# Altium integrated library Infineon_Power_MOSFET.IntLib: 1448 symbols (part 34 of 47)
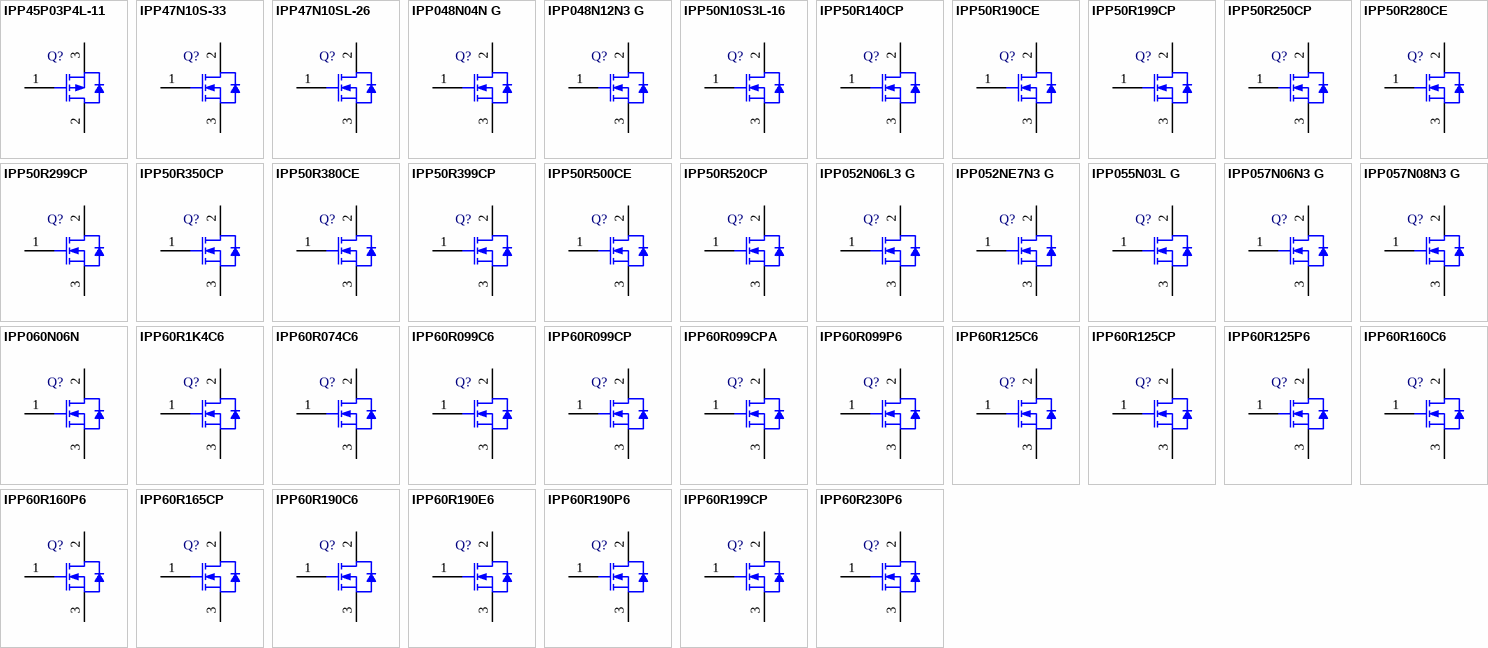
[diagram p70: symbols IPP45P03P4L-11 to IPP60R230P6]

## IPP60R074C6
designator Q?
N-Channel CoolMOS C6 Power-Transistor, 600 V VDS, 57.7 A ID, -55 to 150 degC, PG-TO220-3-1, Tube, Green; Manufacturer: Infineon; PartNumber: IPP60R074C6; Green: TRUE; ID (max): 57.7 A; IDpuls (max): 151 A; Polarity: N; Ptot (max): 480.8 W; QG: 138 nC; RDS (on) (max): 74 mOhm; Rth: 0.26 K/W; RthJA (max): 62 K/W; VDS (max): 600 V; VGS(th) (max): 3.5 V; VGS(th) (min): 2.5 V; DatasheetVersion: Rev. 2.0; PackageVersion: Jul-12; PackageReference: PG-TO220-3-1; PackageDescription: 3-Pin Plastic (Green) Transistor Single Outline Package, 10 x 9.25 mm Body, 2.54 mm Pitch; Halogen-free: TRUE; Packing: Tube; RthJC (max): 0.26 K/W; Technology: CoolMOS C6; Mounting Technology: Through Hole; ComponentLink1Description: Manufacturer URL; ComponentLink1URL: http://www.infineon.com/; ComponentLink2Description: Datasheet; ComponentLink2URL: http://www.infineon.com/dgdl/IPP60R074C6_2_0.pdf?folderId=db3a3043163797a6011637d4bae7003b&fileId=db3a3043337a914d013383d5586560e9; ComponentLink3Description: Package Specification; ComponentLink3URL: http://www.infineon.com/dgdl/BTS117_DS_14.pdf?folderId=db3a30431400ef68011421b54e2e0564&fileId=db3a30433a747525013abff8302d549c&location=en.Products.Automotive_ICs.Smart_High-_and_Low-Side_Switches.HITFET___TEMPFET__-_Smart_Low-Side_Switches.DATASHEET.BTS117_DS_14.pdf
footprint INF-PG-TO220-3-1 (FM, 3-Leads, Body 10x4.4mm, Pitch 2.54mm)
pins: 1 GATE, 2 DRAIN, 3 SOURCE

## IPP60R099C6
designator Q?
N-Channel CoolMOS C6 Power-Transistor, 600 V VDS, 38 A ID, -55 to 150 degC, PG-TO220-3-1, Tube, Green; Manufacturer: Infineon; PartNumber: IPP60R099C6; Green: TRUE; ID (max): 38 A; IDpuls (max): 112 A; Polarity: N; Ptot (max): 278 W; QG: 119 nC; RDS (on) (max): 99 mOhm; Rth: 0.45 K/W; RthJA (max): 62 K/W; VDS (max): 600 V; VGS(th) (max): 3.5 V; VGS(th) (min): 2.5 V; DatasheetVersion: Rev. 2.1; PackageVersion: Jul-12; PackageReference: PG-TO220-3-1; PackageDescription: 3-Pin Plastic (Green) Transistor Single Outline Package, 10 x 9.25 mm Body, 2.54 mm Pitch; Supplier 1: Mouser; Supplier Part Number 1: 726-IPP60R099C6; Supplier 2: Newark; Supplier Part Number 2: 47W3482; Supplier 3: Farnell; Supplier Part Number 3: 2212839; Supplier 4: Digi-Key; Supplier Part Number 4: IPP60R099C6-ND; Halogen-free: TRUE; Packing: Tube; RthJC (max): 0.45 K/W; Technology: CoolMOS C6; Mounting Technology: Through Hole; ComponentLink1Description: Manufacturer URL; ComponentLink1URL: http://www.infineon.com/; ComponentLink2Description: Datasheet; ComponentLink2URL: http://www.infineon.com/dgdl/IPP60R099C6_2_1.pdf?folderId=db3a3043163797a6011638933eda014b&fileId=db3a30432313ff5e012394c84a4c068e; ComponentLink3Description: Package Specification; ComponentLink3URL: http://www.infineon.com/dgdl/BTS117_DS_14.pdf?folderId=db3a30431400ef68011421b54e2e0564&fileId=db3a30433a747525013abff8302d549c&location=en.Products.Automotive_ICs.Smart_High-_and_Low-Side_Switches.HITFET___TEMPFET__-_Smart_Low-Side_Switches.DATASHEET.BTS117_DS_14.pdf
footprint INF-PG-TO220-3-1 (FM, 3-Leads, Body 10x4.4mm, Pitch 2.54mm)
pins: 1 GATE, 2 DRAIN, 3 SOURCE

## IPP60R099CP
designator Q?
N-Channel CoolMOS Power-Transistor, 600 V VDS, 31 A ID, -55 to 150 degC, PG-TO220-3-1, Tube, Green; Manufacturer: Infineon; PartNumber: IPP60R099CP; Green: TRUE; ID (max): 31 A; IDpuls (max): 93 A; Polarity: N; Ptot (max): 255 W; QG: 60 nC; RDS (on) (max): 99 mOhm; Rth: 0.5 K/W; RthJA (max): 62 K/W; VDS (max): 600 V; VGS(th) (max): 3.5 V; VGS(th) (min): 2.5 V; DatasheetVersion: Rev. 2.2; PackageVersion: Jul-12; PackageReference: PG-TO220-3-1; PackageDescription: 3-Pin Plastic (Green) Transistor Single Outline Package, 10 x 9.25 mm Body, 2.54 mm Pitch; Supplier 1: Mouser; Supplier Part Number 1: 726-IPP60R099CP; Supplier 2: Newark; Supplier Part Number 2: 33P7172; Supplier 3: Farnell; Supplier Part Number 3: 1664059; Supplier 4: Digi-Key; Supplier Part Number 4: IPP60R099CPIN-ND; Halogen-free: TRUE; Packing: Tube; RthJC (max): 0.5 K/W; Technology: CoolMOS CP; Mounting Technology: Through Hole; ComponentLink1Description: Manufacturer URL; ComponentLink1URL: http://www.infineon.com/; ComponentLink2Description: Datasheet; ComponentLink2URL: http://www.infineon.com/dgdl/IPP60R099CP_rev2.2.pdf?folderId=db3a304412b407950112b408e8c90004&fileId=db3a304412b407950112b42e3e6b4987; ComponentLink3Description: Package Specification; ComponentLink3URL: http://www.infineon.com/dgdl/BTS117_DS_14.pdf?folderId=db3a30431400ef68011421b54e2e0564&fileId=db3a30433a747525013abff8302d549c&location=en.Products.Automotive_ICs.Smart_High-_and_Low-Side_Switches.HITFET___TEMPFET__-_Smart_Low-Side_Switches.DATASHEET.BTS117_DS_14.pdf
footprint INF-PG-TO220-3-1 (FM, 3-Leads, Body 10x4.4mm, Pitch 2.54mm)
pins: 1 GATE, 2 DRAIN, 3 SOURCE

## IPP60R099CPA
designator Q?
CoolMOS Power Transistor, 600 V VDS, 31 A ID, PG-TO220-3-1, Tube, Green; Manufacturer: Infineon; PartNumber: IPP60R099CPA; Green: TRUE; ID (max): 31 A; IDpuls (max): 93 A; Ptot (max): 255 W; QG: 60 nC; RDS (on) (max) (@10V): 105 mOhm; RthJC (max): 0.5 K/W; VDS (max): 600 V; VGS(th) (max): 3.5 V; VGS(th) (min): 2.5 V; DatasheetVersion: Rev. 2.2; PackageVersion: Jul-12; PackageReference: PG-TO220-3-1; PackageDescription: 3-Pin Plastic (Green) Transistor Single Outline Package, 10 x 9.25 mm Body, 2.54 mm Pitch; Supplier 1: Mouser; Supplier Part Number 1: 726-IPP60R099CPA; Supplier 2: Newark; Supplier Part Number 2: 33P7173; Supplier 3: Farnell; Supplier Part Number 3: 1664060; Supplier 4: Digi-Key; Supplier Part Number 4: IPP60R099CPA-ND; Halogen-free: TRUE; Packing: Tube; Technology: CoolMOS; Mounting Technology: Through Hole; ComponentLink1Description: Manufacturer URL; ComponentLink1URL: http://www.infineon.com/; ComponentLink2Description: Datasheet; ComponentLink2URL: http://www.infineon.com/dgdl/100525_IPP60R099CPA_rev2_2_incl_notification.pdf?folderId=db3a30431a5c32f2011a8084a04a6500&fileId=db3a304328c6bd5c0128ee27172b59dc&location=en.Products.Automotive_ICs.Automotive_MOSFETs.Single__N-Channel_600V_MOSFETs.DATASHEET.100525_IPP60R099CPA_rev2_2_incl_notification.pdf; ComponentLink3Description: Package Specification; ComponentLink3URL: http://www.infineon.com/dgdl/BTS117_DS_14.pdf?folderId=db3a30431400ef68011421b54e2e0564&fileId=db3a30433a747525013abff8302d549c&location=en.Products.Automotive_ICs.Smart_High-_and_Low-Side_Switches.HITFET___TEMPFET__-_Smart_Low-Side_Switches.DATASHEET.BTS117_DS_14.pdf
footprint INF-PG-TO220-3-1 (FM, 3-Leads, Body 10x4.4mm, Pitch 2.54mm)
pins: 1 GATE, 2 DRAIN, 3 SOURCE

## IPP60R099P6
designator Q?
N-Channel CoolMOS(TM) P6 Power Transistor, 600 V VDS, -55 to 150 degC, PG-TO220-3, Tube, Green; Manufacturer: Infineon; PartNumber: IPP60R099P6; Green: TRUE; Polarity: FALSE; RDS (on) (max): 99 mOhm; VDS (max): 600 V; DatasheetVersion: Rev. 2.0; PackageVersion: Rev. 05, 08/2007; PackageReference: PG-TO220-3-1_A; PackageDescription: 3-Pin Plastic (Green) Transistor Single Outline Package, 10.03 x 8.98 mm Body, 2.54 mm Pitch; Supplier 1: Mouser; Supplier Part Number 1: N/A; Halogen-free: TRUE; Packing: Tube; Mounting Technology: Through Hole; ComponentLink1Description: Manufacturer URL; ComponentLink1URL: http://www.infineon.com/; ComponentLink2Description: Datasheet; ComponentLink2URL: http://www.infineon.com/dgdl/DS_IPx60R099P6_2_0.pdf?folderId=db3a3043163797a6011637d4bae7003b&fileId=5546d461464245d301468f3f6a206771; ComponentLink3Description: Package Specification; ComponentLink3URL: http://www.infineon.com/dgdl/IKP30N65H5_2_1.pdf?folderId=db3a3043156fd5730115f56849b61941&fileId=5546d461464245d30146a51a2ca36d28
footprint INF-PG-TO220-3-1_A_V (FM, 3-Leads, Body 10.03x8.98mm, Pitch 2.54mm)
pins: 1 GATE, 2 DRAIN, 3 SOURCE

## IPP60R125C6
designator Q?
N-Channel CoolMOS C6 Power-Transistor, 600 V VDS, 30 A ID, -55 to 150 degC, PG-TO220-3-1, Tube, Green; Manufacturer: Infineon; PartNumber: IPP60R125C6; Green: TRUE; ID (max): 30 A; IDpuls (max): 89 A; Polarity: N; Ptot (max): 219 W; QG: 96 nC; RDS (on) (max): 125 mOhm; Rth: 0.57 K/W; RthJA (max): 62 K/W; VDS (max): 600 V; VGS(th) (max): 3.5 V; VGS(th) (min): 2.5 V; DatasheetVersion: Rev. 2.1; PackageVersion: Jul-12; PackageReference: PG-TO220-3-1; PackageDescription: 3-Pin Plastic (Green) Transistor Single Outline Package, 10 x 9.25 mm Body, 2.54 mm Pitch; Supplier 1: Mouser; Supplier Part Number 1: 726-IPP60R125C6; Supplier 2: Digi-Key; Supplier Part Number 2: IPP60R125C6-ND; Halogen-free: TRUE; Packing: Tube; RthJC (max): 0.57 K/W; Technology: CoolMOS C6; Mounting Technology: Through Hole; ComponentLink1Description: Manufacturer URL; ComponentLink1URL: http://www.infineon.com/; ComponentLink2Description: Datasheet; ComponentLink2URL: http://www.infineon.com/dgdl/IPW60R125C6_2_1.pdf?folderId=db3a3043163797a6011637d4bae7003b&fileId=db3a30432313ff5e01235b1ae8fc4910; ComponentLink3Description: Package Specification; ComponentLink3URL: http://www.infineon.com/dgdl/BTS117_DS_14.pdf?folderId=db3a30431400ef68011421b54e2e0564&fileId=db3a30433a747525013abff8302d549c&location=en.Products.Automotive_ICs.Smart_High-_and_Low-Side_Switches.HITFET___TEMPFET__-_Smart_Low-Side_Switches.DATASHEET.BTS117_DS_14.pdf
footprint INF-PG-TO220-3-1 (FM, 3-Leads, Body 10x4.4mm, Pitch 2.54mm)
pins: 1 GATE, 2 DRAIN, 3 SOURCE

## IPP60R125CP
designator Q?
N-Channel CoolMOS Power-Transistor, 600 V VDS, 25 A ID, -55 to 150 degC, PG-TO220-3-1, Tube, Green; Manufacturer: Infineon; PartNumber: IPP60R125CP; Green: TRUE; ID (max): 25 A; IDpuls (max): 82 A; Polarity: N; Ptot (max): 208 W; QG: 53 nC; RDS (on) (max): 125 mOhm; Rth: 0.6 K/W; RthJA (max): 62 K/W; VDS (max): 600 V; VGS(th) (max): 3.5 V; VGS(th) (min): 2.5 V; DatasheetVersion: Rev. 2.2; PackageVersion: Jul-12; PackageReference: PG-TO220-3-1; PackageDescription: 3-Pin Plastic (Green) Transistor Single Outline Package, 10 x 9.25 mm Body, 2.54 mm Pitch; Supplier 1: Mouser; Supplier Part Number 1: 726-IPP60R125CP; Supplier 2: Newark; Supplier Part Number 2: 33P7174; Supplier 3: Farnell; Supplier Part Number 3: 1664061; Supplier 4: Digi-Key; Supplier Part Number 4: IPP60R125CP-ND; Halogen-free: TRUE; Packing: Tube; RthJC (max): 0.6 K/W; Technology: CoolMOS CP; Mounting Technology: Through Hole; ComponentLink1Description: Manufacturer URL; ComponentLink1URL: http://www.infineon.com/; ComponentLink2Description: Datasheet; ComponentLink2URL: http://www.infineon.com/dgdl/IPP60R125CP_rev2.2.pdf?folderId=db3a304412b407950112b408e8c90004&fileId=db3a304412b407950112b42c0e59465d; ComponentLink3Description: Package Specification; ComponentLink3URL: http://www.infineon.com/dgdl/BTS117_DS_14.pdf?folderId=db3a30431400ef68011421b54e2e0564&fileId=db3a30433a747525013abff8302d549c&location=en.Products.Automotive_ICs.Smart_High-_and_Low-Side_Switches.HITFET___TEMPFET__-_Smart_Low-Side_Switches.DATASHEET.BTS117_DS_14.pdf
footprint INF-PG-TO220-3-1 (FM, 3-Leads, Body 10x4.4mm, Pitch 2.54mm)
pins: 1 GATE, 2 DRAIN, 3 SOURCE

## IPP60R125P6
designator Q?
N-Channel CoolMOS(TM) P6 Power Transistor, 600 V VDS, -55 to 150 degC, PG-TO220-3, Reel, Green; Manufacturer: Infineon; PartNumber: IPP60R125P6; Green: TRUE; Polarity: FALSE; RDS (on) (max): 125 mOhm; VDS (max): 600 V; DatasheetVersion: Rev. 2.0; PackageVersion: Rev. 05, 08/2007; PackageReference: PG-TO220-3-1_A; PackageDescription: 3-Pin Plastic (Green) Transistor Single Outline Package, 10.03 x 8.98 mm Body, 2.54 mm Pitch; Supplier 1: Mouser; Supplier Part Number 1: N/A; Halogen-free: TRUE; Packing: Reel; Mounting Technology: Through Hole; ComponentLink1Description: Manufacturer URL; ComponentLink1URL: http://www.infineon.com/; ComponentLink2Description: Datasheet; ComponentLink2URL: http://www.infineon.com/dgdl/DS_IPx60R125P6_2_0.pdf?folderId=db3a3043156fd5730115c736bcc70ff2&fileId=5546d461464245d301468b0fade666af; ComponentLink3Description: Package Specification; ComponentLink3URL: http://www.infineon.com/dgdl/IKP30N65H5_2_1.pdf?folderId=db3a3043156fd5730115f56849b61941&fileId=5546d461464245d30146a51a2ca36d28
footprint INF-PG-TO220-3-1_A_V (FM, 3-Leads, Body 10.03x8.98mm, Pitch 2.54mm)
pins: 1 GATE, 2 DRAIN, 3 SOURCE

## IPP60R160C6
designator Q?
N-Channel CoolMOS C6 Power-Transistor, 600 V VDS, 23.8 A ID, -55 to 150 degC, PG-TO220-3-1, Tube, Green; Manufacturer: Infineon; PartNumber: IPP60R160C6; Green: TRUE; ID (max): 23.8 A; IDpuls (max): 70 A; Polarity: N; Ptot (max): 176 W; QG: 75 nC; RDS (on) (max): 160 mOhm; Rth: 0.71 K/W; RthJA (max): 62 K/W; VDS (max): 600 V; VGS(th) (max): 3.5 V; VGS(th) (min): 2.5 V; DatasheetVersion: Rev. 2.1; PackageVersion: Jul-12; PackageReference: PG-TO220-3-1; PackageDescription: 3-Pin Plastic (Green) Transistor Single Outline Package, 10 x 9.25 mm Body, 2.54 mm Pitch; Supplier 1: Mouser; Supplier Part Number 1: 726-IPP60R160C6; Supplier 2: Newark; Supplier Part Number 2: 30T1843; Supplier 3: Farnell; Supplier Part Number 3: 1860825; Supplier 4: Digi-Key; Supplier Part Number 4: IPP60R160C6-ND; Halogen-free: TRUE; Packing: Tube; RthJC (max): 0.71 K/W; Technology: CoolMOS C6; Mounting Technology: Through Hole; ComponentLink1Description: Manufacturer URL; ComponentLink1URL: http://www.infineon.com/; ComponentLink2Description: Datasheet; ComponentLink2URL: http://www.infineon.com/dgdl/IPP60R160C6_2_1.pdf?folderId=db3a3043163797a6011638933eda014b&fileId=db3a304323b87bc20123f06a60d340d2; ComponentLink3Description: Package Specification; ComponentLink3URL: http://www.infineon.com/dgdl/BTS117_DS_14.pdf?folderId=db3a30431400ef68011421b54e2e0564&fileId=db3a30433a747525013abff8302d549c&location=en.Products.Automotive_ICs.Smart_High-_and_Low-Side_Switches.HITFET___TEMPFET__-_Smart_Low-Side_Switches.DATASHEET.BTS117_DS_14.pdf
footprint INF-PG-TO220-3-1 (FM, 3-Leads, Body 10x4.4mm, Pitch 2.54mm)
pins: 1 GATE, 2 DRAIN, 3 SOURCE

## IPP60R160P6
designator Q?
N-Channel CoolMOS(TM) P6 Power Transistor, 600 V VDS, -55 to 150 degC, PG-TO220-3, Tube, Green; Manufacturer: Infineon; PartNumber: IPP60R160P6; Green: TRUE; Polarity: FALSE; RDS (on) (max): 160 mOhm; VDS (max): 600 V; DatasheetVersion: Rev. 2.1; PackageVersion: Rev. 05, 08/2007; PackageReference: PG-TO220-3-1_A; PackageDescription: 3-Pin Plastic (Green) Transistor Single Outline Package, 10.03 x 8.98 mm Body, 2.54 mm Pitch; Supplier 1: Mouser; Supplier Part Number 1: N/A; Halogen-free: TRUE; Packing: Tube; Mounting Technology: Through Hole; ComponentLink1Description: Manufacturer URL; ComponentLink1URL: http://www.infineon.com/; ComponentLink2Description: Datasheet; ComponentLink2URL: http://www.infineon.com/dgdl/DS_IPx60R160P6_2_1.pdf?folderId=db3a3043156fd5730115c736bcc70ff2&fileId=db3a3043414fd3ef01415efd27711e0b; ComponentLink3Description: Package Specification; ComponentLink3URL: http://www.infineon.com/dgdl/IKP30N65H5_2_1.pdf?folderId=db3a3043156fd5730115f56849b61941&fileId=5546d461464245d30146a51a2ca36d28
footprint INF-PG-TO220-3-1_A_V (FM, 3-Leads, Body 10.03x8.98mm, Pitch 2.54mm)
pins: 1 GATE, 2 DRAIN, 3 SOURCE

## IPP60R165CP
designator Q?
N-Channel CoolMOS Power-Transistor, 600 V VDS, 21 A ID, -55 to 150 degC, PG-TO220-3-1, Tube, Green; Manufacturer: Infineon; PartNumber: IPP60R165CP; Green: TRUE; ID (max): 21 A; IDpuls (max): 61 A; Polarity: N; Ptot (max): 192 W; QG: 39 nC; RDS (on) (max): 165 mOhm; Rth: 0.65 K/W; RthJA (max): 62 K/W; VDS (max): 600 V; VGS(th) (max): 3.5 V; VGS(th) (min): 2.5 V; DatasheetVersion: Rev. 2.2; PackageVersion: Jul-12; PackageReference: PG-TO220-3-1; PackageDescription: 3-Pin Plastic (Green) Transistor Single Outline Package, 10 x 9.25 mm Body, 2.54 mm Pitch; Supplier 1: Mouser; Supplier Part Number 1: 726-IPP60R165CP; Supplier 2: Newark; Supplier Part Number 2: 33P7175; Supplier 3: Digi-Key; Supplier Part Number 3: IPP60R165CP-ND; Halogen-free: TRUE; Packing: Tube; RthJC (max): 0.65 K/W; Technology: CoolMOS CP; Mounting Technology: Through Hole; ComponentLink1Description: Manufacturer URL; ComponentLink1URL: http://www.infineon.com/; ComponentLink2Description: Datasheet; ComponentLink2URL: http://www.infineon.com/dgdl/IPP60R165CP_rev2.2.pdf?folderId=db3a304412b407950112b408e8c90004&fileId=db3a304412b407950112b42c113a4661; ComponentLink3Description: Package Specification; ComponentLink3URL: http://www.infineon.com/dgdl/BTS117_DS_14.pdf?folderId=db3a30431400ef68011421b54e2e0564&fileId=db3a30433a747525013abff8302d549c&location=en.Products.Automotive_ICs.Smart_High-_and_Low-Side_Switches.HITFET___TEMPFET__-_Smart_Low-Side_Switches.DATASHEET.BTS117_DS_14.pdf
footprint INF-PG-TO220-3-1 (FM, 3-Leads, Body 10x4.4mm, Pitch 2.54mm)
pins: 1 GATE, 2 DRAIN, 3 SOURCE

## IPP60R190C6
designator Q?
N-Channel CoolMOS C6 Power-Transistor, 600 V VDS, 20.2 A ID, -55 to 150 degC, PG-TO220-3-1, Tube, Green; Manufacturer: Infineon; PartNumber: IPP60R190C6; Green: TRUE; ID (max): 20.2 A; IDpuls (max): 59 A; Polarity: N; Ptot (max): 151 W; QG: 63 nC; RDS (on) (max): 190 mOhm; Rth: 0.83 K/W; RthJA (max): 62 K/W; VDS (max): 600 V; VGS(th) (max): 3.5 V; VGS(th) (min): 2.5 V; DatasheetVersion: Rev. 2.1; PackageVersion: Jul-12; PackageReference: PG-TO220-3-1; PackageDescription: 3-Pin Plastic (Green) Transistor Single Outline Package, 10 x 9.25 mm Body, 2.54 mm Pitch; Supplier 1: Mouser; Supplier Part Number 1: 726-IPP60R190C6; Supplier 2: Digi-Key; Supplier Part Number 2: IPP60R190C6-ND; Halogen-free: TRUE; Packing: Tube; RthJC (max): 0.83 K/W; Technology: CoolMOS C6; Mounting Technology: Through Hole; ComponentLink1Description: Manufacturer URL; ComponentLink1URL: http://www.infineon.com/; ComponentLink2Description: Datasheet; ComponentLink2URL: http://www.infineon.com/dgdl/IPP60R190C6+2.1.pdf?folderId=db3a30431ff98815012019af55de3f2c&fileId=db3a30432239cccd0122651296f31152; ComponentLink3Description: Package Specification; ComponentLink3URL: http://www.infineon.com/dgdl/BTS117_DS_14.pdf?folderId=db3a30431400ef68011421b54e2e0564&fileId=db3a30433a747525013abff8302d549c&location=en.Products.Automotive_ICs.Smart_High-_and_Low-Side_Switches.HITFET___TEMPFET__-_Smart_Low-Side_Switches.DATASHEET.BTS117_DS_14.pdf
footprint INF-PG-TO220-3-1 (FM, 3-Leads, Body 10x4.4mm, Pitch 2.54mm)
pins: 1 GATE, 2 DRAIN, 3 SOURCE

## IPP60R190E6
designator Q?
N-Channel CoolMOS E6 Power-Transistor, 600 V VDS, 20.2 A ID, -55 to 150 degC, PG-TO220-3-1, Tube, Green; Manufacturer: Infineon; PartNumber: IPP60R190E6; Green: TRUE; ID (max): 20.2 A; IDpuls (max): 59 A; Polarity: N; Ptot (max): 151 W; QG: 63 nC; RDS (on) (max): 190 mOhm; Rth: 0.83 K/W; RthJA (max): 62 K/W; VDS (max): 600 V; VGS(th) (max): 3.5 V; VGS(th) (min): 2.5 V; DatasheetVersion: Rev. 2.0; PackageVersion: Jul-12; PackageReference: PG-TO220-3-1; PackageDescription: 3-Pin Plastic (Green) Transistor Single Outline Package, 10 x 9.25 mm Body, 2.54 mm Pitch; Supplier 1: Mouser; Supplier Part Number 1: 726-IPP60R190E6; Supplier 2: Digi-Key; Supplier Part Number 2: IPP60R190E6-ND; Halogen-free: TRUE; Packing: Tube; RthJC (max): 0.83 K/W; Technology: CoolMOS E6; Mounting Technology: Through Hole; ComponentLink1Description: Manufacturer URL; ComponentLink1URL: http://www.infineon.com/; ComponentLink2Description: Datasheet; ComponentLink2URL: http://www.infineon.com/dgdl/IPP60R190E6_2_0.pdf?folderId=db3a3043163797a6011637d4bae7003b&fileId=db3a3043284aacd801286cb864242943; ComponentLink3Description: Package Specification; ComponentLink3URL: http://www.infineon.com/dgdl/BTS117_DS_14.pdf?folderId=db3a30431400ef68011421b54e2e0564&fileId=db3a30433a747525013abff8302d549c&location=en.Products.Automotive_ICs.Smart_High-_and_Low-Side_Switches.HITFET___TEMPFET__-_Smart_Low-Side_Switches.DATASHEET.BTS117_DS_14.pdf
footprint INF-PG-TO220-3-1 (FM, 3-Leads, Body 10x4.4mm, Pitch 2.54mm)
pins: 1 GATE, 2 DRAIN, 3 SOURCE

## IPP60R190P6
designator Q?
N-Channel CoolMOS(TM) P6 Power Transistor, 600 V VDS, -55 to 150 degC, PG-TO220-3, Tube, Green; Manufacturer: Infineon; PartNumber: IPP60R190P6; Green: TRUE; Polarity: FALSE; RDS (on) (max): 190 mOhm; VDS (max): 600 V; DatasheetVersion: Rev. 2.1; PackageVersion: Rev. 05, 08/2007; PackageReference: PG-TO220-3-1_A; PackageDescription: 3-Pin Plastic (Green) Transistor Single Outline Package, 10.03 x 8.98 mm Body, 2.54 mm Pitch; Supplier 1: Digi-Key; Supplier Part Number 1: IPP60R190P6-ND; Supplier 2: Farnell; Supplier Part Number 2: 2420500; Supplier 3: Newark; Supplier Part Number 3: 54X5228; Halogen-free: TRUE; Packing: Tube; Mounting Technology: Through Hole; ComponentLink1Description: Manufacturer URL; ComponentLink1URL: http://www.infineon.com/; ComponentLink2Description: Datasheet; ComponentLink2URL: http://www.infineon.com/dgdl/DS_IPx60R190P6_2_1.pdf?folderId=db3a3043156fd5730115c736bcc70ff2&fileId=db3a30433f2e70c5013f37c80e24240f; ComponentLink3Description: Package Specification; ComponentLink3URL: http://www.infineon.com/dgdl/IKP30N65H5_2_1.pdf?folderId=db3a3043156fd5730115f56849b61941&fileId=5546d461464245d30146a51a2ca36d28
footprint INF-PG-TO220-3-1_A_V (FM, 3-Leads, Body 10.03x8.98mm, Pitch 2.54mm)
pins: 1 GATE, 2 DRAIN, 3 SOURCE

## IPP60R199CP
designator Q?
N-Channel CoolMOS Power-Transistor, 600 V VDS, 16 A ID, -55 to 150 degC, PG-TO220-3-1, Tube, Green; Manufacturer: Infineon; PartNumber: IPP60R199CP; Green: TRUE; ID (max): 16 A; IDpuls (max): 51 A; Polarity: N; Ptot (max): 139 W; QG: 32 nC; RDS (on) (max): 199 mOhm; Rth: 0.9 K/W; RthJA (max): 62 K/W; VDS (max): 600 V; VGS(th) (max): 3.5 V; VGS(th) (min): 2.5 V; DatasheetVersion: Rev. 2.3; PackageVersion: Jul-12; PackageReference: PG-TO220-3-1; PackageDescription: 3-Pin Plastic (Green) Transistor Single Outline Package, 10 x 9.25 mm Body, 2.54 mm Pitch; Supplier 1: Mouser; Supplier Part Number 1: 726-IPP60R199CP; Supplier 2: Newark; Supplier Part Number 2: 33P7176; Supplier 3: Farnell; Supplier Part Number 3: 1664064; Supplier 4: Digi-Key; Supplier Part Number 4: IPP60R199CPIN-ND; Halogen-free: TRUE; Packing: Tube; RthJC (max): 0.9 K/W; Technology: CoolMOS CP; Mounting Technology: Through Hole; ComponentLink1Description: Manufacturer URL; ComponentLink1URL: http://www.infineon.com/; ComponentLink2Description: Datasheet; ComponentLink2URL: http://www.infineon.com/dgdl/IPP60R199CP_rev2.3.pdf?folderId=db3a304412b407950112b408e8c90004&fileId=db3a304412b407950112b42d8b484897; ComponentLink3Description: Package Specification; ComponentLink3URL: http://www.infineon.com/dgdl/BTS117_DS_14.pdf?folderId=db3a30431400ef68011421b54e2e0564&fileId=db3a30433a747525013abff8302d549c&location=en.Products.Automotive_ICs.Smart_High-_and_Low-Side_Switches.HITFET___TEMPFET__-_Smart_Low-Side_Switches.DATASHEET.BTS117_DS_14.pdf
footprint INF-PG-TO220-3-1 (FM, 3-Leads, Body 10x4.4mm, Pitch 2.54mm)
pins: 1 GATE, 2 DRAIN, 3 SOURCE

## IPP60R230P6
designator Q?
N-Channel CoolMOS(TM) P6 Power Transistor, 600 V VDS, -55 to 150 degC, PG-TO220-3, Tube, Green; Manufacturer: Infineon; PartNumber: IPP60R230P6; Green: TRUE; Polarity: FALSE; RDS (on) (max): 230 mOhm; VDS (max): 600 V; DatasheetVersion: Rev. 2.1; PackageVersion: Rev. 05, 08/2007; PackageReference: PG-TO220-3-1_A; PackageDescription: 3-Pin Plastic (Green) Transistor Single Outline Package, 10.03 x 8.98 mm Body, 2.54 mm Pitch; Supplier 1: Mouser; Supplier Part Number 1: N/A; Halogen-free: TRUE; Packing: Tube; Mounting Technology: Through Hole; ComponentLink1Description: Manufacturer URL; ComponentLink1URL: http://www.infineon.com/; ComponentLink2Description: Datasheet; ComponentLink2URL: http://www.infineon.com/dgdl/DS_IPx60R230P6_2_1.pdf?folderId=db3a3043156fd5730115c736bcc70ff2&fileId=db3a3043414fd3ef01415f8ab7321ec1; ComponentLink3Description: Package Specification; ComponentLink3URL: http://www.infineon.com/dgdl/IKP30N65H5_2_1.pdf?folderId=db3a3043156fd5730115f56849b61941&fileId=5546d461464245d30146a51a2ca36d28
footprint INF-PG-TO220-3-1_A_V (FM, 3-Leads, Body 10.03x8.98mm, Pitch 2.54mm)
pins: 1 GATE, 2 DRAIN, 3 SOURCE

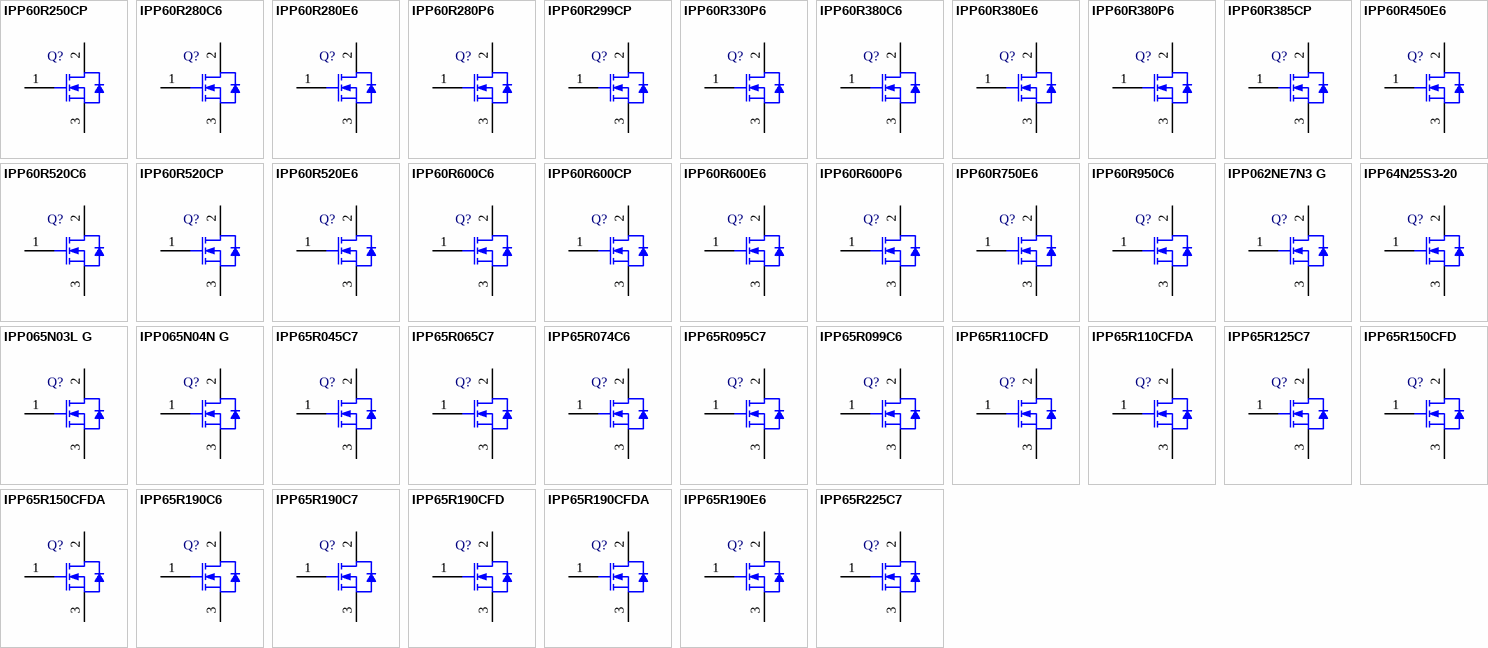
[diagram p27: symbols IPP60R250CP to IPP65R225C7]

## IPP60R250CP
designator Q?
N-Channel CoolMOS Power-Transistor, 600 V VDS, 12 A ID, -55 to 150 degC, PG-TO220-3-1, Tube, Green; Manufacturer: Infineon; PartNumber: IPP60R250CP; Green: TRUE; ID (max): 12 A; IDpuls (max): 40 A; Polarity: N; Ptot (max): 104 W; QG: 26 nC; RDS (on) (max): 250 mOhm; Rth: 1 K/W; RthJA (max): 62 K/W; RthJC (max): 1.2 K/W; VDS (max): 600 V; VGS(th) (max): 3.5 V; VGS(th) (min): 2.5 V; DatasheetVersion: Rev. 2.1; PackageVersion: Jul-12; PackageReference: PG-TO220-3-1; PackageDescription: 3-Pin Plastic (Green) Transistor Single Outline Package, 10 x 9.25 mm Body, 2.54 mm Pitch; Supplier 1: Mouser; Supplier Part Number 1: 726-IPP60R250CP; Supplier 2: Newark; Supplier Part Number 2: 33P7177; Supplier 3: Digi-Key; Supplier Part Number 3: IPP60R250CPIN-ND; Halogen-free: TRUE; Packing: Tube; Technology: CoolMOS CP; Mounting Technology: Through Hole; ComponentLink1Description: Manufacturer URL; ComponentLink1URL: http://www.infineon.com/; ComponentLink2Description: Datasheet; ComponentLink2URL: http://www.infineon.com/dgdl/IPP60R250CP_rev2.1.pdf?folderId=db3a3043163797a6011637d4bae7003b&fileId=db3a304316f66ee8011744d1654a2fa7; ComponentLink3Description: Package Specification; ComponentLink3URL: http://www.infineon.com/dgdl/BTS117_DS_14.pdf?folderId=db3a30431400ef68011421b54e2e0564&fileId=db3a30433a747525013abff8302d549c&location=en.Products.Automotive_ICs.Smart_High-_and_Low-Side_Switches.HITFET___TEMPFET__-_Smart_Low-Side_Switches.DATASHEET.BTS117_DS_14.pdf
footprint INF-PG-TO220-3-1 (FM, 3-Leads, Body 10x4.4mm, Pitch 2.54mm)
pins: 1 GATE, 2 DRAIN, 3 SOURCE

## IPP60R280C6
designator Q?
N-Channel CoolMOS C6 Power-Transistor, 600 V VDS, 13.8 A ID, -55 to 150 degC, PG-TO220-3-1, Tube, Green; Manufacturer: Infineon; PartNumber: IPP60R280C6; Green: TRUE; ID (max): 13.8 A; IDpuls (max): 40 A; Polarity: N; Ptot (max): 104 W; QG: 43 nC; RDS (on) (max): 280 mOhm; Rth: 1.2 K/W; RthJA (max): 62 K/W; VDS (max): 600 V; VGS(th) (max): 3.5 V; VGS(th) (min): 2.5 V; DatasheetVersion: Rev. 2.1; PackageVersion: Jul-12; PackageReference: PG-TO220-3-1; PackageDescription: 3-Pin Plastic (Green) Transistor Single Outline Package, 10 x 9.25 mm Body, 2.54 mm Pitch; Supplier 1: Mouser; Supplier Part Number 1: 726-IPP60R280C6; Supplier 2: Digi-Key; Supplier Part Number 2: IPP60R280C6-ND; Halogen-free: TRUE; Packing: Tube; RthJC (max): 1.2 K/W; Technology: CoolMOS C6; Mounting Technology: Through Hole; ComponentLink1Description: Manufacturer URL; ComponentLink1URL: http://www.infineon.com/; ComponentLink2Description: Datasheet; ComponentLink2URL: http://www.infineon.com/dgdl/IPP60R280C6_2_1.pdf?folderId=db3a3043163797a6011638933eda014b&fileId=db3a30432313ff5e01239de7a64a6f83; ComponentLink3Description: Package Specification; ComponentLink3URL: http://www.infineon.com/dgdl/BTS117_DS_14.pdf?folderId=db3a30431400ef68011421b54e2e0564&fileId=db3a30433a747525013abff8302d549c&location=en.Products.Automotive_ICs.Smart_High-_and_Low-Side_Switches.HITFET___TEMPFET__-_Smart_Low-Side_Switches.DATASHEET.BTS117_DS_14.pdf
footprint INF-PG-TO220-3-1 (FM, 3-Leads, Body 10x4.4mm, Pitch 2.54mm)
pins: 1 GATE, 2 DRAIN, 3 SOURCE

## IPP60R280E6
designator Q?
N-Channel CoolMOS E6 Power-Transistor, 600 V VDS, 13.8 A ID, -55 to 150 degC, PG-TO220-3-1, Tube, Green; Manufacturer: Infineon; PartNumber: IPP60R280E6; Green: TRUE; ID (max): 13.8 A; IDpuls (max): 40 A; Polarity: N; Ptot (max): 104 W; QG: 43 nC; RDS (on) (max): 280 mOhm; Rth: 1.2 K/W; RthJA (max): 62 K/W; VDS (max): 600 V; VGS(th) (max): 3.5 V; VGS(th) (min): 2.5 V; DatasheetVersion: Rev. 2.0; PackageVersion: Jul-12; PackageReference: PG-TO220-3-1; PackageDescription: 3-Pin Plastic (Green) Transistor Single Outline Package, 10 x 9.25 mm Body, 2.54 mm Pitch; Supplier 1: Mouser; Supplier Part Number 1: 726-IPP60R280E6; Supplier 2: Digi-Key; Supplier Part Number 2: IPP60R280E6-ND; Halogen-free: TRUE; Packing: Tube; RthJC (max): 1.2 K/W; Technology: CoolMOS E6; Mounting Technology: Through Hole; ComponentLink1Description: Manufacturer URL; ComponentLink1URL: http://www.infineon.com/; ComponentLink2Description: Datasheet; ComponentLink2URL: http://www.infineon.com/dgdl/IPP60R280E6_2.0.pdf?folderId=db3a3043163797a6011638933eda014b&fileId=db3a304327b8975001281fa6ed7144f7; ComponentLink3Description: Package Specification; ComponentLink3URL: http://www.infineon.com/dgdl/BTS117_DS_14.pdf?folderId=db3a30431400ef68011421b54e2e0564&fileId=db3a30433a747525013abff8302d549c&location=en.Products.Automotive_ICs.Smart_High-_and_Low-Side_Switches.HITFET___TEMPFET__-_Smart_Low-Side_Switches.DATASHEET.BTS117_DS_14.pdf
footprint INF-PG-TO220-3-1 (FM, 3-Leads, Body 10x4.4mm, Pitch 2.54mm)
pins: 1 GATE, 2 DRAIN, 3 SOURCE

## IPP60R280P6
designator Q?
N-Channel CoolMOS(TM) P6 Power Transistor, 600 V VDS, -55 to 150 degC, PG-TO220-3, Tube, Green; Manufacturer: Infineon; PartNumber: IPP60R280P6; Green: TRUE; Polarity: FALSE; RDS (on) (max): 280 mOhm; VDS (max): 600 V; DatasheetVersion: Rev. 2.1; PackageVersion: Rev. 05, 08/2007; PackageReference: PG-TO220-3-1_A; PackageDescription: 3-Pin Plastic (Green) Transistor Single Outline Package, 10.03 x 8.98 mm Body, 2.54 mm Pitch; Supplier 1: Farnell; Supplier Part Number 1: 2420499; Supplier 2: Newark; Supplier Part Number 2: 54X5229; Halogen-free: TRUE; Packing: Tube; Mounting Technology: Through Hole; ComponentLink1Description: Manufacturer URL; ComponentLink1URL: http://www.infineon.com/; ComponentLink2Description: Datasheet; ComponentLink2URL: http://www.infineon.com/dgdl/DS_IPx60R280P6_2_1.pdf?folderId=db3a3043156fd5730115c736bcc70ff2&fileId=db3a3043416e106e01416e269e3e0021; ComponentLink3Description: Package Specification; ComponentLink3URL: http://www.infineon.com/dgdl/IKP30N65H5_2_1.pdf?folderId=db3a3043156fd5730115f56849b61941&fileId=5546d461464245d30146a51a2ca36d28
footprint INF-PG-TO220-3-1_A_V (FM, 3-Leads, Body 10.03x8.98mm, Pitch 2.54mm)
pins: 1 GATE, 2 DRAIN, 3 SOURCE

## IPP60R299CP
designator Q?
N-Channel CoolMOS Power-Transistor, 600 V VDS, 11 A ID, -55 to 150 degC, PG-TO220-3-1, Tube, Green; Manufacturer: Infineon; PartNumber: IPP60R299CP; Green: TRUE; ID (max): 11 A; IDpuls (max): 34 A; Polarity: N; Ptot (max): 96 W; QG: 22 nC; RDS (on) (max): 299 mOhm; Rth: 1.3 K/W; RthJA (max): 62 K/W; VDS (max): 600 V; VGS(th) (max): 3.5 V; VGS(th) (min): 2.5 V; DatasheetVersion: Rev. 2.2; PackageVersion: Jul-12; PackageReference: PG-TO220-3-1; PackageDescription: 3-Pin Plastic (Green) Transistor Single Outline Package, 10 x 9.25 mm Body, 2.54 mm Pitch; Supplier 1: Mouser; Supplier Part Number 1: 726-IPP60R299CP; Supplier 2: Farnell; Supplier Part Number 2: 1664066; Supplier 3: Digi-Key; Supplier Part Number 3: IPP60R299CPIN-ND; Halogen-free: TRUE; Packing: Tube; RthJC (max): 1.3 K/W; Technology: CoolMOS CP; Mounting Technology: Through Hole; ComponentLink1Description: Manufacturer URL; ComponentLink1URL: http://www.infineon.com/; ComponentLink2Description: Datasheet; ComponentLink2URL: http://www.infineon.com/dgdl/IPP60R299CP_rev2.2.pdf?folderId=db3a304412b407950112b408e8c90004&fileId=db3a304412b407950112b42e4194498b; ComponentLink3Description: Package Specification; ComponentLink3URL: http://www.infineon.com/dgdl/BTS117_DS_14.pdf?folderId=db3a30431400ef68011421b54e2e0564&fileId=db3a30433a747525013abff8302d549c&location=en.Products.Automotive_ICs.Smart_High-_and_Low-Side_Switches.HITFET___TEMPFET__-_Smart_Low-Side_Switches.DATASHEET.BTS117_DS_14.pdf
footprint INF-PG-TO220-3-1 (FM, 3-Leads, Body 10x4.4mm, Pitch 2.54mm)
pins: 1 GATE, 2 DRAIN, 3 SOURCE

## IPP60R330P6
designator Q?
N-Channel CoolMOS(TM) P6 Power Transistor, 600 V VDS, -55 to 150 degC, PG-TO220-3, Tube, Green; Manufacturer: Infineon; PartNumber: IPP60R330P6; Green: TRUE; Polarity: FALSE; RDS (on) (max): 330 mOhm; VDS (max): 600 V; DatasheetVersion: Rev. 2.1; PackageVersion: Rev. 05, 08/2007; PackageReference: PG-TO220-3-1_A; PackageDescription: 3-Pin Plastic (Green) Transistor Single Outline Package, 10.03 x 8.98 mm Body, 2.54 mm Pitch; Supplier 1: Mouser; Supplier Part Number 1: N/A; Halogen-free: TRUE; Packing: Tube; Mounting Technology: Through Hole; ComponentLink1Description: Manufacturer URL; ComponentLink1URL: http://www.infineon.com/; ComponentLink2Description: Datasheet; ComponentLink2URL: http://www.infineon.com/dgdl/DS_IPx60R330P6_2_1.pdf?folderId=db3a3043156fd5730115c736bcc70ff2&fileId=db3a3043416e106e01416e6a5f240149; ComponentLink3Description: Package Specification; ComponentLink3URL: http://www.infineon.com/dgdl/IKP30N65H5_2_1.pdf?folderId=db3a3043156fd5730115f56849b61941&fileId=5546d461464245d30146a51a2ca36d28
footprint INF-PG-TO220-3-1_A_V (FM, 3-Leads, Body 10.03x8.98mm, Pitch 2.54mm)
pins: 1 GATE, 2 DRAIN, 3 SOURCE

## IPP60R380C6
designator Q?
N-Channel CoolMOS C6 Power-Transistor, 600 V VDS, 10.6 A ID, -55 to 150 degC, PG-TO220-3-1, Tube, Green; Manufacturer: Infineon; PartNumber: IPP60R380C6; Green: TRUE; ID (max): 10.6 A; IDpuls (max): 30 A; Polarity: N; Ptot (max): 83 W; QG: 32 nC; RDS (on) (max): 380 mOhm; Rth: 1.5 K/W; RthJA (max): 62 K/W; VDS (max): 600 V; VGS(th) (max): 3.5 V; VGS(th) (min): 2.5 V; DatasheetVersion: Rev. 2.0; PackageVersion: Jul-12; PackageReference: PG-TO220-3-1; PackageDescription: 3-Pin Plastic (Green) Transistor Single Outline Package, 10 x 9.25 mm Body, 2.54 mm Pitch; Supplier 1: Mouser; Supplier Part Number 1: 726-IPP60R380C6; Supplier 2: Farnell; Supplier Part Number 2: 1860819; Supplier 3: Digi-Key; Supplier Part Number 3: IPP60R380C6-ND; Halogen-free: TRUE; Packing: Tube; RthJC (max): 1.5 K/W; Technology: CoolMOS C6; Mounting Technology: Through Hole; ComponentLink1Description: Manufacturer URL; ComponentLink1URL: http://www.infineon.com/; ComponentLink2Description: Datasheet; ComponentLink2URL: http://www.infineon.com/dgdl/IPP60R380C6_2_0.pdf?folderId=db3a30431ff98815012019af55de3f2c&fileId=db3a30432239cccd012297d36a554479; ComponentLink3Description: Package Specification; ComponentLink3URL: http://www.infineon.com/dgdl/BTS117_DS_14.pdf?folderId=db3a30431400ef68011421b54e2e0564&fileId=db3a30433a747525013abff8302d549c&location=en.Products.Automotive_ICs.Smart_High-_and_Low-Side_Switches.HITFET___TEMPFET__-_Smart_Low-Side_Switches.DATASHEET.BTS117_DS_14.pdf
footprint INF-PG-TO220-3-1 (FM, 3-Leads, Body 10x4.4mm, Pitch 2.54mm)
pins: 1 GATE, 2 DRAIN, 3 SOURCE

## IPP60R380E6
designator Q?
N-Channel CoolMOS E6 Power-Transistor, 600 V VDS, 10.6 A ID, -55 to 150 degC, PG-TO220-3-1, Tube, Green; Manufacturer: Infineon; PartNumber: IPP60R380E6; Green: TRUE; ID (max): 10.6 A; IDpuls (max): 30 A; Polarity: N; Ptot (max): 83 W; QG: 32 nC; RDS (on) (max): 380 mOhm; Rth: 1.5 K/W; RthJA (max): 62 K/W; VDS (max): 600 V; VGS(th) (max): 3.5 V; VGS(th) (min): 2.5 V; DatasheetVersion: Rev. 2.0; PackageVersion: Jul-12; PackageReference: PG-TO220-3-1; PackageDescription: 3-Pin Plastic (Green) Transistor Single Outline Package, 10 x 9.25 mm Body, 2.54 mm Pitch; Supplier 1: Mouser; Supplier Part Number 1: 726-IPP60R380E6; Supplier 2: Digi-Key; Supplier Part Number 2: IPP60R380E6-ND; Halogen-free: TRUE; Packing: Tube; RthJC (max): 1.5 K/W; Technology: CoolMOS E6; Mounting Technology: Through Hole; ComponentLink1Description: Manufacturer URL; ComponentLink1URL: http://www.infineon.com/; ComponentLink2Description: Datasheet; ComponentLink2URL: http://www.infineon.com/dgdl/IPP60R380E6_2_1.pdf?folderId=db3a3043163797a6011638933eda014b&fileId=db3a304327b8975001281f82741f44c8; ComponentLink3Description: Package Specification; ComponentLink3URL: http://www.infineon.com/dgdl/BTS117_DS_14.pdf?folderId=db3a30431400ef68011421b54e2e0564&fileId=db3a30433a747525013abff8302d549c&location=en.Products.Automotive_ICs.Smart_High-_and_Low-Side_Switches.HITFET___TEMPFET__-_Smart_Low-Side_Switches.DATASHEET.BTS117_DS_14.pdf
footprint INF-PG-TO220-3-1 (FM, 3-Leads, Body 10x4.4mm, Pitch 2.54mm)
pins: 1 GATE, 2 DRAIN, 3 SOURCE

## IPP60R380P6
designator Q?
N-Channel CoolMOS(TM) P6 Power Transistor, 600 V VDS, -55 to 150 degC, PG-TO220-3, Tube, Green; Manufacturer: Infineon; PartNumber: IPP60R380P6; Green: TRUE; Polarity: FALSE; RDS (on) (max): 380 mOhm; VDS (max): 600 V; DatasheetVersion: Rev. 2.1; PackageVersion: Rev. 05, 08/2007; PackageReference: PG-TO220-3-1_A; PackageDescription: 3-Pin Plastic (Green) Transistor Single Outline Package, 10.03 x 8.98 mm Body, 2.54 mm Pitch; Supplier 1: Farnell; Supplier Part Number 1: 2420498; Supplier 2: Newark; Supplier Part Number 2: 54X5230; Supplier 3: Mouser; Supplier Part Number 3: N/A; Halogen-free: TRUE; Packing: Tube; Mounting Technology: Through Hole; ComponentLink1Description: Manufacturer URL; ComponentLink1URL: http://www.infineon.com/; ComponentLink2Description: Datasheet; ComponentLink2URL: http://www.infineon.com/dgdl/DS_IPx60R380P6_2_1.pdf?folderId=db3a3043156fd5730115c736bcc70ff2&fileId=db3a3043416e106e01416e9316410203; ComponentLink3Description: Package Specification; ComponentLink3URL: http://www.infineon.com/dgdl/IKP30N65H5_2_1.pdf?folderId=db3a3043156fd5730115f56849b61941&fileId=5546d461464245d30146a51a2ca36d28
footprint INF-PG-TO220-3-1_A_V (FM, 3-Leads, Body 10.03x8.98mm, Pitch 2.54mm)
pins: 1 GATE, 2 DRAIN, 3 SOURCE

## IPP60R385CP
designator Q?
N-Channel CoolMOS Power-Transistor, 600 V VDS, 9 A ID, -55 to 150 degC, PG-TO220-3-1, Tube, Green; Manufacturer: Infineon; PartNumber: IPP60R385CP; Green: TRUE; ID (max): 9 A; IDpuls (max): 27 A; Polarity: N; Ptot (max): 83 W; QG: 17 nC; RDS (on) (max): 385 mOhm; Rth: 1.5 K/W; RthJA (max): 62 K/W; VDS (max): 600 V; VGS(th) (max): 3.5 V; VGS(th) (min): 2.5 V; DatasheetVersion: Rev. 2.2; PackageVersion: Jul-12; PackageReference: PG-TO220-3-1; PackageDescription: 3-Pin Plastic (Green) Transistor Single Outline Package, 10 x 9.25 mm Body, 2.54 mm Pitch; Supplier 1: Mouser; Supplier Part Number 1: 726-IPP60R385CP; Supplier 2: Farnell; Supplier Part Number 2: 1664067; Supplier 3: Digi-Key; Supplier Part Number 3: IPP60R385CP-ND; Halogen-free: TRUE; Packing: Tube; RthJC (max): 1.5 K/W; Technology: CoolMOS CP; Mounting Technology: Through Hole; ComponentLink1Description: Manufacturer URL; ComponentLink1URL: http://www.infineon.com/; ComponentLink2Description: Datasheet; ComponentLink2URL: http://www.infineon.com/dgdl/IPP60R385CP_rev2.2.pdf?folderId=db3a304412b407950112b408e8c90004&fileId=db3a304412b407950112b42c14154665; ComponentLink3Description: Package Specification; ComponentLink3URL: http://www.infineon.com/dgdl/BTS117_DS_14.pdf?folderId=db3a30431400ef68011421b54e2e0564&fileId=db3a30433a747525013abff8302d549c&location=en.Products.Automotive_ICs.Smart_High-_and_Low-Side_Switches.HITFET___TEMPFET__-_Smart_Low-Side_Switches.DATASHEET.BTS117_DS_14.pdf
footprint INF-PG-TO220-3-1 (FM, 3-Leads, Body 10x4.4mm, Pitch 2.54mm)
pins: 1 GATE, 2 DRAIN, 3 SOURCE

## IPP60R450E6
designator Q?
N-Channel CoolMOS E6 Power-Transistor, 600 V VDS, 9.2 A ID, -55 to 150 degC, PG-TO220-3-1, Tube, Green; Manufacturer: Infineon; PartNumber: IPP60R450E6; Green: TRUE; ID (max): 9.2 A; IDpuls (max): 26 A; Polarity: N; Ptot (max): 74 W; QG: 28 nC; RDS (on) (max): 450 mOhm; Rth: 1.7 K/W; RthJA (max): 62 K/W; VDS (max): 600 V; VGS(th) (max): 3.5 V; VGS(th) (min): 2.5 V; DatasheetVersion: Rev. 2.0; PackageVersion: Jul-12; PackageReference: PG-TO220-3-1; PackageDescription: 3-Pin Plastic (Green) Transistor Single Outline Package, 10 x 9.25 mm Body, 2.54 mm Pitch; Supplier 1: Mouser; Supplier Part Number 1: 726-IPP60R450E6; Supplier 2: Digi-Key; Supplier Part Number 2: IPP60R450E6-ND; Halogen-free: TRUE; Packing: Tube; RthJC (max): 1.7 K/W; Technology: CoolMOS E6; Mounting Technology: Through Hole; ComponentLink1Description: Manufacturer URL; ComponentLink1URL: http://www.infineon.com/; ComponentLink2Description: Datasheet; ComponentLink2URL: http://www.infineon.com/dgdl/IPP60R450E6_2_0.pdf?folderId=db3a3043156fd5730115c736bcc70ff2&fileId=db3a30432a14dd54012a1973fd1f2b43; ComponentLink3Description: Package Specification; ComponentLink3URL: http://www.infineon.com/dgdl/BTS117_DS_14.pdf?folderId=db3a30431400ef68011421b54e2e0564&fileId=db3a30433a747525013abff8302d549c&location=en.Products.Automotive_ICs.Smart_High-_and_Low-Side_Switches.HITFET___TEMPFET__-_Smart_Low-Side_Switches.DATASHEET.BTS117_DS_14.pdf
footprint INF-PG-TO220-3-1 (FM, 3-Leads, Body 10x4.4mm, Pitch 2.54mm)
pins: 1 GATE, 2 DRAIN, 3 SOURCE

## IPP60R520C6
designator Q?
N-Channel CoolMOS C6 Power-Transistor, 600 V VDS, 8.1 A ID, -55 to 150 degC, PG-TO220-3-1, Tube, Green; Manufacturer: Infineon; PartNumber: IPP60R520C6; Green: TRUE; ID (max): 8.1 A; IDpuls (max): 22 A; Polarity: N; Ptot (max): 66 W; QG: 23.4 nC; RDS (on) (max): 520 mOhm; Rth: 1.9 K/W; RthJA (max): 62 K/W; VDS (max): 600 V; VGS(th) (max): 3.5 V; VGS(th) (min): 2.5 V; DatasheetVersion: Rev. 2.0; PackageVersion: Jul-12; PackageReference: PG-TO220-3-1; PackageDescription: 3-Pin Plastic (Green) Transistor Single Outline Package, 10 x 9.25 mm Body, 2.54 mm Pitch; Supplier 1: Mouser; Supplier Part Number 1: 726-IPP60R520C6; Supplier 2: Digi-Key; Supplier Part Number 2: IPP60R520C6-ND; Halogen-free: TRUE; Packing: Tube; RthJC (max): 1.9 K/W; Technology: CoolMOS C6; Mounting Technology: Through Hole; ComponentLink1Description: Manufacturer URL; ComponentLink1URL: http://www.infineon.com/; ComponentLink2Description: Datasheet; ComponentLink2URL: http://www.infineon.com/dgdl/IPP60R520C6_2.0.pdf?folderId=db3a3043163797a6011638933eda014b&fileId=db3a304323b87bc20123e68d6824590e; ComponentLink3Description: Package Specification; ComponentLink3URL: http://www.infineon.com/dgdl/BTS117_DS_14.pdf?folderId=db3a30431400ef68011421b54e2e0564&fileId=db3a30433a747525013abff8302d549c&location=en.Products.Automotive_ICs.Smart_High-_and_Low-Side_Switches.HITFET___TEMPFET__-_Smart_Low-Side_Switches.DATASHEET.BTS117_DS_14.pdf
footprint INF-PG-TO220-3-1 (FM, 3-Leads, Body 10x4.4mm, Pitch 2.54mm)
pins: 1 GATE, 2 DRAIN, 3 SOURCE

## IPP60R520CP
designator Q?
N-Channel CoolMOS Power-Transistor, 600 V VDS, 6.8 A ID, -55 to 150 degC, PG-TO220-3-1, Tube, Green; Manufacturer: Infineon; PartNumber: IPP60R520CP; Green: TRUE; ID (max): 6.8 A; IDpuls (max): 17 A; Polarity: N; Ptot (max): 66 W; QG: 24 nC; RDS (on) (max): 520 mOhm; Rth: 1.9 K/W; RthJA (max): 62 K/W; VDS (max): 600 V; VGS(th) (max): 3.5 V; VGS(th) (min): 2.5 V; DatasheetVersion: Rev. 2.1; PackageVersion: Jul-12; PackageReference: PG-TO220-3-1; PackageDescription: 3-Pin Plastic (Green) Transistor Single Outline Package, 10 x 9.25 mm Body, 2.54 mm Pitch; Supplier 1: Mouser; Supplier Part Number 1: 726-IPP60R520CP; Supplier 2: Farnell; Supplier Part Number 2: 1664068; Supplier 3: Digi-Key; Supplier Part Number 3: IPP60R520CP-ND; Halogen-free: TRUE; Packing: Tube; RthJC (max): 1.9 K/W; Technology: CoolMOS CP; Mounting Technology: Through Hole; ComponentLink1Description: Manufacturer URL; ComponentLink1URL: http://www.infineon.com/; ComponentLink2Description: Datasheet; ComponentLink2URL: http://www.infineon.com/dgdl/IPP60R520CP_rev2.1.pdf?folderId=db3a3043156fd5730115c736bcc70ff2&fileId=db3a3043183a955501187933104c0476; ComponentLink3Description: Package Specification; ComponentLink3URL: http://www.infineon.com/dgdl/BTS117_DS_14.pdf?folderId=db3a30431400ef68011421b54e2e0564&fileId=db3a30433a747525013abff8302d549c&location=en.Products.Automotive_ICs.Smart_High-_and_Low-Side_Switches.HITFET___TEMPFET__-_Smart_Low-Side_Switches.DATASHEET.BTS117_DS_14.pdf
footprint INF-PG-TO220-3-1 (FM, 3-Leads, Body 10x4.4mm, Pitch 2.54mm)
pins: 1 GATE, 2 DRAIN, 3 SOURCE

## IPP60R520E6
designator Q?
N-Channel CoolMOS E6 Power-Transistor, 600 V VDS, 8.1 A ID, -55 to 150 degC, PG-TO220-3-1, Tube, Green; Manufacturer: Infineon; PartNumber: IPP60R520E6; Green: TRUE; ID (max): 8.1 A; IDpuls (max): 22 A; Polarity: N; Ptot (max): 66 W; QG: 23.4 nC; RDS (on) (max): 520 mOhm; Rth: 1.9 K/W; RthJA (max): 62 K/W; VDS (max): 600 V; VGS(th) (max): 3.5 V; VGS(th) (min): 2.5 V; DatasheetVersion: Rev. 2.0; PackageVersion: Jul-12; PackageReference: PG-TO220-3-1; PackageDescription: 3-Pin Plastic (Green) Transistor Single Outline Package, 10 x 9.25 mm Body, 2.54 mm Pitch; Supplier 1: Mouser; Supplier Part Number 1: 726-IPP60R520E6; Supplier 2: Digi-Key; Supplier Part Number 2: IPP60R520E6-ND; Halogen-free: TRUE; Packing: Tube; RthJC (max): 1.9 K/W; Technology: CoolMOS E6; Mounting Technology: Through Hole; ComponentLink1Description: Manufacturer URL; ComponentLink1URL: http://www.infineon.com/; ComponentLink2Description: Datasheet; ComponentLink2URL: http://www.infineon.com/dgdl/IPP60R520E6_2_0.pdf?folderId=db3a3043163797a6011638933eda014b&fileId=db3a304327b8975001281ba841551b3c; ComponentLink3Description: Package Specification; ComponentLink3URL: http://www.infineon.com/dgdl/BTS117_DS_14.pdf?folderId=db3a30431400ef68011421b54e2e0564&fileId=db3a30433a747525013abff8302d549c&location=en.Products.Automotive_ICs.Smart_High-_and_Low-Side_Switches.HITFET___TEMPFET__-_Smart_Low-Side_Switches.DATASHEET.BTS117_DS_14.pdf
footprint INF-PG-TO220-3-1 (FM, 3-Leads, Body 10x4.4mm, Pitch 2.54mm)
pins: 1 GATE, 2 DRAIN, 3 SOURCE

## IPP60R600C6
designator Q?
N-Channel CoolMOS C6 Power-Transistor, 600 V VDS, 7.3 A ID, -55 to 150 degC, PG-TO220-3-1, Tube, Green; Manufacturer: Infineon; PartNumber: IPP60R600C6; Green: TRUE; ID (max): 7.3 A; IDpuls (max): 19 A; Polarity: N; Ptot (max): 63 W; QG: 20.5 nC; RDS (on) (max): 600 mOhm; Rth: 2 K/W; RthJA (max): 62 K/W; VDS (max): 600 V; VGS(th) (max): 3.5 V; VGS(th) (min): 2.5 V; DatasheetVersion: Rev. 2.0; PackageVersion: Jul-12; PackageReference: PG-TO220-3-1; PackageDescription: 3-Pin Plastic (Green) Transistor Single Outline Package, 10 x 9.25 mm Body, 2.54 mm Pitch; Supplier 1: Mouser; Supplier Part Number 1: 726-IPP60R600C6; Supplier 2: Newark; Supplier Part Number 2: 30T1848; Supplier 3: Farnell; Supplier Part Number 3: 1860820; Supplier 4: Digi-Key; Supplier Part Number 4: IPP60R600C6-ND; Halogen-free: TRUE; Packing: Tube; RthJC (max): 2 K/W; Technology: CoolMOS C6; Mounting Technology: Through Hole; ComponentLink1Description: Manufacturer URL; ComponentLink1URL: http://www.infineon.com/; ComponentLink2Description: Datasheet; ComponentLink2URL: http://www.infineon.com/dgdl/IPP60R600C6_2_0.pdf?folderId=db3a30431ff98815012019af55de3f2c&fileId=db3a30432239cccd0122a83539b37d74; ComponentLink3Description: Package Specification; ComponentLink3URL: http://www.infineon.com/dgdl/BTS117_DS_14.pdf?folderId=db3a30431400ef68011421b54e2e0564&fileId=db3a30433a747525013abff8302d549c&location=en.Products.Automotive_ICs.Smart_High-_and_Low-Side_Switches.HITFET___TEMPFET__-_Smart_Low-Side_Switches.DATASHEET.BTS117_DS_14.pdf
footprint INF-PG-TO220-3-1 (FM, 3-Leads, Body 10x4.4mm, Pitch 2.54mm)
pins: 1 GATE, 2 DRAIN, 3 SOURCE

## IPP60R600CP
designator Q?
N-Channel CoolMOS Power-Transistor, 600 V VDS, 6.1 A ID, -55 to 150 degC, PG-TO220-3-1, Tube, Green; Manufacturer: Infineon; PartNumber: IPP60R600CP; Green: TRUE; ID (max): 6.1 A; IDpuls (max): 15 A; Polarity: N; Ptot (max): 60 W; QG: 21 nC; RDS (on) (max): 600 mOhm; Rth: 2.1 K/W; RthJA (max): 62 K/W; VDS (max): 600 V; VGS(th) (max): 3.5 V; VGS(th) (min): 2.5 V; DatasheetVersion: Rev. 2.0; PackageVersion: Jul-12; PackageReference: PG-TO220-3-1; PackageDescription: 3-Pin Plastic (Green) Transistor Single Outline Package, 10 x 9.25 mm Body, 2.54 mm Pitch; Supplier 1: Mouser; Supplier Part Number 1: 726-IPP60R600CP; Supplier 2: Digi-Key; Supplier Part Number 2: IPP60R600CP-ND; Halogen-free: TRUE; Packing: Tube; RthJC (max): 2.1 K/W; Technology: CoolMOS CP; Mounting Technology: Through Hole; ComponentLink1Description: Manufacturer URL; ComponentLink1URL: http://www.infineon.com/; ComponentLink2Description: Datasheet; ComponentLink2URL: http://www.infineon.com/dgdl/IPP60R600CP_rev2.0.pdf?folderId=db3a3043163797a6011637d4bae7003b&fileId=db3a3043183a955501187933e58d047b; ComponentLink3Description: Package Specification; ComponentLink3URL: http://www.infineon.com/dgdl/BTS117_DS_14.pdf?folderId=db3a30431400ef68011421b54e2e0564&fileId=db3a30433a747525013abff8302d549c&location=en.Products.Automotive_ICs.Smart_High-_and_Low-Side_Switches.HITFET___TEMPFET__-_Smart_Low-Side_Switches.DATASHEET.BTS117_DS_14.pdf
footprint INF-PG-TO220-3-1 (FM, 3-Leads, Body 10x4.4mm, Pitch 2.54mm)
pins: 1 GATE, 2 DRAIN, 3 SOURCE

## IPP60R600E6
designator Q?
N-Channel CoolMOS E6 Power-Transistor, 600 V VDS, 7.3 A ID, -55 to 150 degC, PG-TO220-3-1, Tube, Green; Manufacturer: Infineon; PartNumber: IPP60R600E6; Green: TRUE; ID (max): 7.3 A; IDpuls (max): 19 A; Polarity: N; Ptot (max): 63 W; QG: 20.5 nC; RDS (on) (max): 600 mOhm; Rth: 2 K/W; RthJA (max): 62 K/W; VDS (max): 600 V; VGS(th) (max): 3.5 V; VGS(th) (min): 2.5 V; DatasheetVersion: Rev. 2.0; PackageVersion: Jul-12; PackageReference: PG-TO220-3-1; PackageDescription: 3-Pin Plastic (Green) Transistor Single Outline Package, 10 x 9.25 mm Body, 2.54 mm Pitch; Supplier 1: Mouser; Supplier Part Number 1: 726-IPP60R600E6; Supplier 2: Digi-Key; Supplier Part Number 2: IPP60R600E6-ND; Halogen-free: TRUE; Packing: Tube; RthJC (max): 2 K/W; Technology: CoolMOS E6; Mounting Technology: Through Hole; ComponentLink1Description: Manufacturer URL; ComponentLink1URL: http://www.infineon.com/; ComponentLink2Description: Datasheet; ComponentLink2URL: http://www.infineon.com/dgdl/IPP60R600E6+2.0.pdf?folderId=db3a3043163797a6011638933eda014b&fileId=db3a304327b8975001281b5df3c81ad2; ComponentLink3Description: Package Specification; ComponentLink3URL: http://www.infineon.com/dgdl/BTS117_DS_14.pdf?folderId=db3a30431400ef68011421b54e2e0564&fileId=db3a30433a747525013abff8302d549c&location=en.Products.Automotive_ICs.Smart_High-_and_Low-Side_Switches.HITFET___TEMPFET__-_Smart_Low-Side_Switches.DATASHEET.BTS117_DS_14.pdf
footprint INF-PG-TO220-3-1 (FM, 3-Leads, Body 10x4.4mm, Pitch 2.54mm)
pins: 1 GATE, 2 DRAIN, 3 SOURCE